# Altium footprint library Connector_Samtec_HSEC8.PcbLib: 133 footprints (part 7 of 9)
Each footprint in its own frame and in the unit in brackets; x right, y up, seen from the top. Pads: shape width x height; smd on the part's side, far side on the other; paste and mask are expansions set on the pad; w line width, h text height; cw(c..) or ccw(c..) is an arc to the next point about the centre after c.
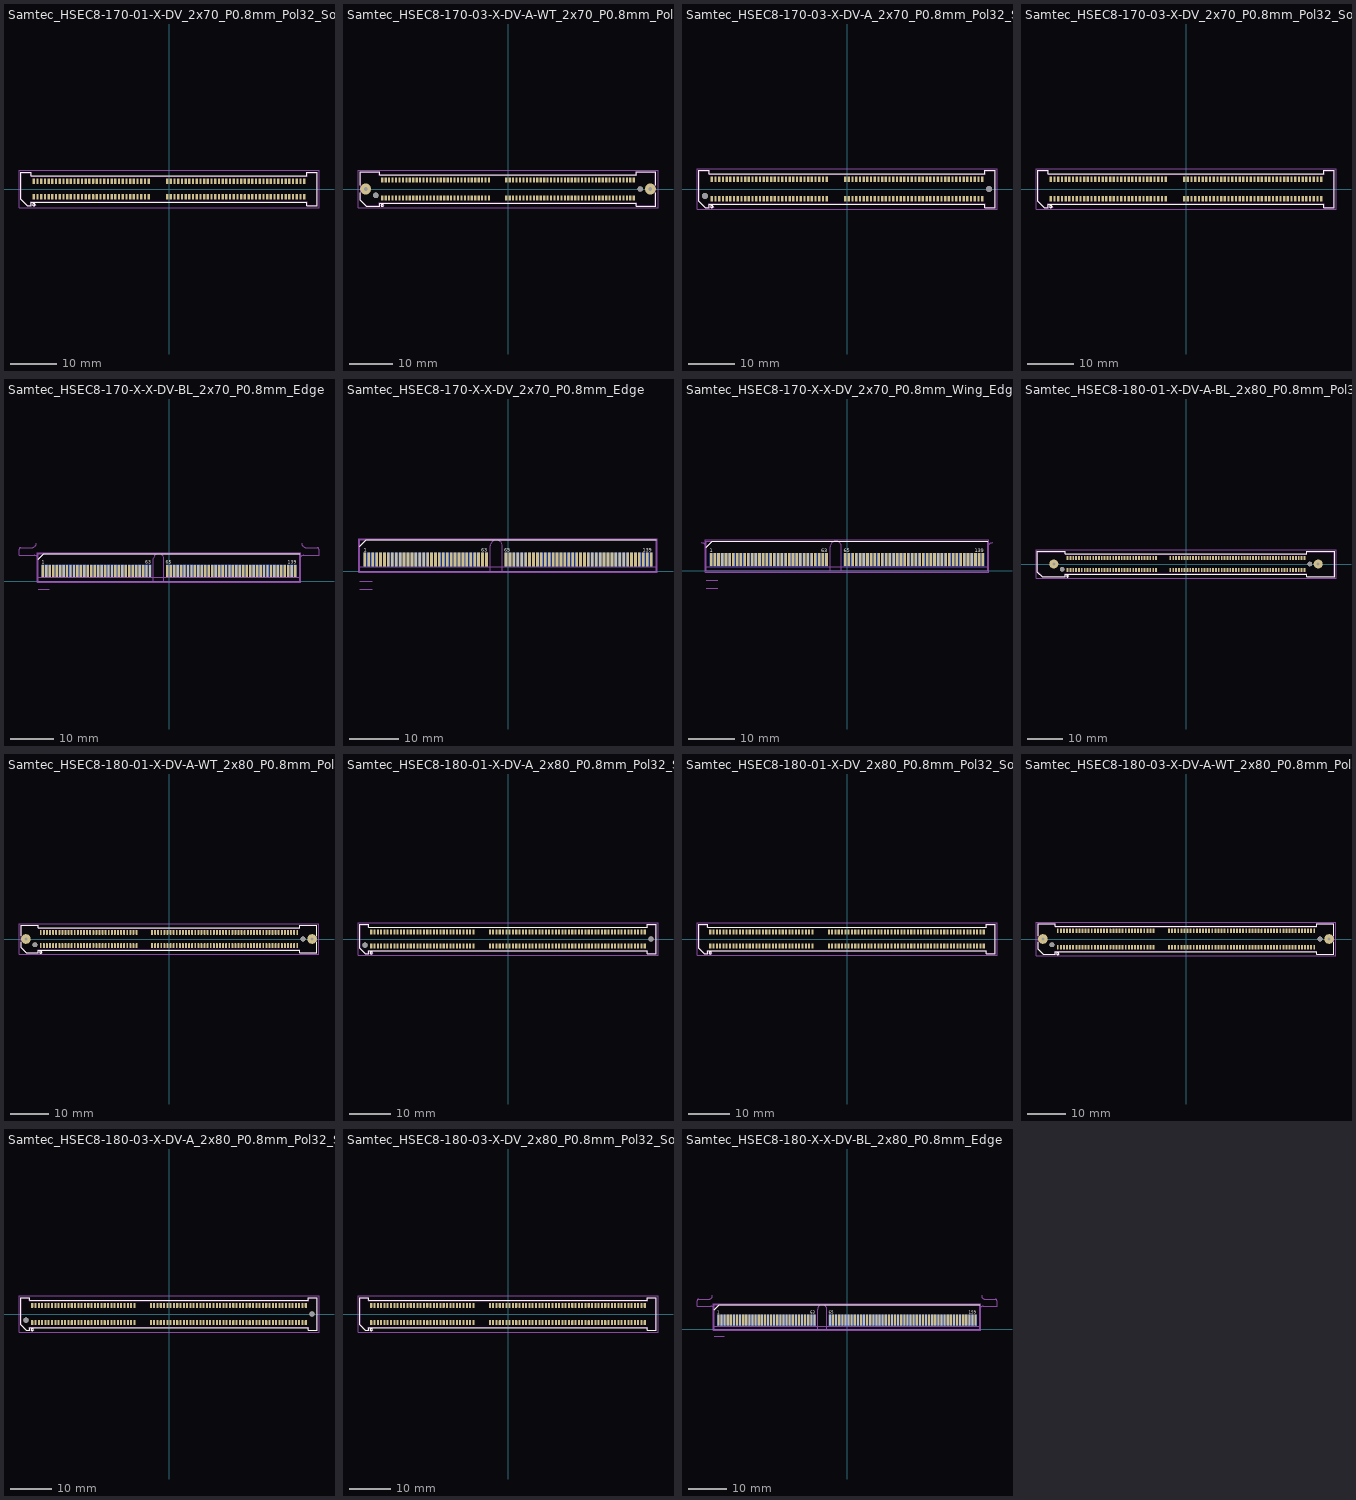
[diagram p6: the footprints below, top view; thin cyan lines are the x and y axes]

## Samtec_HSEC8-170-01-X-DV_2x70_P0.8mm_Pol32_Socket [mm]
pads (140):
  rrect25% 0.5x1.2 smd: 1(-29.2,-1.7) 2(-29.2,1.7) 3(-28.4,-1.7) 4(-28.4,1.7) 5(-27.6,-1.7) 6(-27.6,1.7) 7(-26.8,-1.7) 8(-26.8,1.7) 9(-26,-1.7) 10(-26,1.7) 11(-25.2,-1.7) 12(-25.2,1.7) 13(-24.4,-1.7) 14(-24.4,1.7) 15(-23.6,-1.7) 16(-23.6,1.7) 17(-22.8,-1.7) 18(-22.8,1.7) 19(-22,-1.7) 20(-22,1.7) 21(-21.2,-1.7) 22(-21.2,1.7) 23(-20.4,-1.7) 24(-20.4,1.7) 25(-19.6,-1.7) 26(-19.6,1.7) 27(-18.8,-1.7) 28(-18.8,1.7) 29(-18,-1.7) 30(-18,1.7) 31(-17.2,-1.7) 32(-17.2,1.7) 33(-16.4,-1.7) 34(-16.4,1.7) 35(-15.6,-1.7) 36(-15.6,1.7) 37(-14.8,-1.7) 38(-14.8,1.7) 39(-14,-1.7) 40(-14,1.7) 41(-13.2,-1.7) 42(-13.2,1.7) 43(-12.4,-1.7) 44(-12.4,1.7) 45(-11.6,-1.7) 46(-11.6,1.7) 47(-10.8,-1.7) 48(-10.8,1.7) 49(-10,-1.7) 50(-10,1.7) 51(-9.2,-1.7) 52(-9.2,1.7) 53(-8.4,-1.7) 54(-8.4,1.7) 55(-7.6,-1.7) 56(-7.6,1.7) 57(-6.8,-1.7) 58(-6.8,1.7) 59(-6,-1.7) 60(-6,1.7) 61(-5.2,-1.7) 62(-5.2,1.7) 63(-4.4,-1.7) 64(-4.4,1.7) 65(-0.4,-1.7) 66(-0.4,1.7) 67(0.4,-1.7) 68(0.4,1.7) 69(1.2,-1.7) 70(1.2,1.7) 71(2,-1.7) 72(2,1.7) 73(2.8,-1.7) 74(2.8,1.7) 75(3.6,-1.7) 76(3.6,1.7) 77(4.4,-1.7) 78(4.4,1.7) 79(5.2,-1.7) 80(5.2,1.7) 81(6,-1.7) 82(6,1.7) 83(6.8,-1.7) 84(6.8,1.7) 85(7.6,-1.7) 86(7.6,1.7) 87(8.4,-1.7) 88(8.4,1.7) 89(9.2,-1.7) 90(9.2,1.7) 91(10,-1.7) 92(10,1.7) 93(10.8,-1.7) 94(10.8,1.7) 95(11.6,-1.7) 96(11.6,1.7) 97(12.4,-1.7) 98(12.4,1.7) 99(13.2,-1.7) 100(13.2,1.7) 101(14,-1.7) 102(14,1.7) 103(14.8,-1.7) 104(14.8,1.7) 105(15.6,-1.7) 106(15.6,1.7) 107(16.4,-1.7) 108(16.4,1.7) 109(17.2,-1.7) 110(17.2,1.7) 111(18,-1.7) 112(18,1.7) 113(18.8,-1.7) 114(18.8,1.7) 115(19.6,-1.7) 116(19.6,1.7) 117(20.4,-1.7) 118(20.4,1.7) 119(21.2,-1.7) 120(21.2,1.7) 121(22,-1.7) 122(22,1.7) 123(22.8,-1.7) 124(22.8,1.7) 125(23.6,-1.7) 126(23.6,1.7) 127(24.4,-1.7) 128(24.4,1.7) 129(25.2,-1.7) 130(25.2,1.7) 131(26,-1.7) 132(26,1.7) 133(26.8,-1.7) 134(26.8,1.7) 135(27.6,-1.7) 136(27.6,1.7) 137(28.4,-1.7) 138(28.4,1.7) 139(29.2,-1.7) 140(29.2,1.7)
F.SilkS:
  circle w0.254: c-29.2,-3.4 r0.25
  lines w0.254: -32.01,-2.246 -30.646,-3.61 -29.79,-3.61 -29.79,-2.91 29.79,-2.91 29.79,-3.61 32.01,-3.61 32.01,3.61 29.79,3.61 29.79,2.91 -29.79,2.91 -29.79,3.61 -32.01,3.61 -32.01,-2.246
Top Assembly:
  lines w0.254: -31.9,-2.2 -30.6,-3.5 -29.9,-3.5 -29.9,-2.8 29.9,-2.8 29.9,-3.5 31.9,-3.5 31.9,3.5 29.9,3.5 29.9,2.8 -29.9,2.8 -29.9,3.5 -31.9,3.5 -31.9,-2.2 ; -29.6,-3.5 -28.8,-3.5 -29.2,-2.86 -29.6,-3.5
  text "'.Designator'" at -4.047,-0.84 h1
Top Courtyard:
  lines w0.254: -32.41,-4 32.41,-4 32.41,4 -32.41,4 -32.41,-4
Top Designator:
  text ".Designator" at -7.618,-0.508 h1.52

## Samtec_HSEC8-170-03-X-DV-A-WT_2x70_P0.8mm_Pol32_Socket_WeldTabs [mm]
pads (144):
  rrect25% 0.5x1.2 smd: 1(-29.2,-2.095) 2(-29.2,2.095) 3(-28.4,-2.095) 4(-28.4,2.095) 5(-27.6,-2.095) 6(-27.6,2.095) 7(-26.8,-2.095) 8(-26.8,2.095) 9(-26,-2.095) 10(-26,2.095) 11(-25.2,-2.095) 12(-25.2,2.095) 13(-24.4,-2.095) 14(-24.4,2.095) 15(-23.6,-2.095) 16(-23.6,2.095) 17(-22.8,-2.095) 18(-22.8,2.095) 19(-22,-2.095) 20(-22,2.095) 21(-21.2,-2.095) 22(-21.2,2.095) 23(-20.4,-2.095) 24(-20.4,2.095) 25(-19.6,-2.095) 26(-19.6,2.095) 27(-18.8,-2.095) 28(-18.8,2.095) 29(-18,-2.095) 30(-18,2.095) 31(-17.2,-2.095) 32(-17.2,2.095) 33(-16.4,-2.095) 34(-16.4,2.095) 35(-15.6,-2.095) 36(-15.6,2.095) 37(-14.8,-2.095) 38(-14.8,2.095) 39(-14,-2.095) 40(-14,2.095) 41(-13.2,-2.095) 42(-13.2,2.095) 43(-12.4,-2.095) 44(-12.4,2.095) 45(-11.6,-2.095) 46(-11.6,2.095) 47(-10.8,-2.095) 48(-10.8,2.095) 49(-10,-2.095) 50(-10,2.095) 51(-9.2,-2.095) 52(-9.2,2.095) 53(-8.4,-2.095) 54(-8.4,2.095) 55(-7.6,-2.095) 56(-7.6,2.095) 57(-6.8,-2.095) 58(-6.8,2.095) 59(-6,-2.095) 60(-6,2.095) 61(-5.2,-2.095) 62(-5.2,2.095) 63(-4.4,-2.095) 64(-4.4,2.095) 65(-0.4,-2.095) 66(-0.4,2.095) 67(0.4,-2.095) 68(0.4,2.095) 69(1.2,-2.095) 70(1.2,2.095) 71(2,-2.095) 72(2,2.095) 73(2.8,-2.095) 74(2.8,2.095) 75(3.6,-2.095) 76(3.6,2.095) 77(4.4,-2.095) 78(4.4,2.095) 79(5.2,-2.095) 80(5.2,2.095) 81(6,-2.095) 82(6,2.095) 83(6.8,-2.095) 84(6.8,2.095) 85(7.6,-2.095) 86(7.6,2.095) 87(8.4,-2.095) 88(8.4,2.095) 89(9.2,-2.095) 90(9.2,2.095) 91(10,-2.095) 92(10,2.095) 93(10.8,-2.095) 94(10.8,2.095) 95(11.6,-2.095) 96(11.6,2.095) 97(12.4,-2.095) 98(12.4,2.095) 99(13.2,-2.095) 100(13.2,2.095) 101(14,-2.095) 102(14,2.095) 103(14.8,-2.095) 104(14.8,2.095) 105(15.6,-2.095) 106(15.6,2.095) 107(16.4,-2.095) 108(16.4,2.095) 109(17.2,-2.095) 110(17.2,2.095) 111(18,-2.095) 112(18,2.095) 113(18.8,-2.095) 114(18.8,2.095) 115(19.6,-2.095) 116(19.6,2.095) 117(20.4,-2.095) 118(20.4,2.095) 119(21.2,-2.095) 120(21.2,2.095) 121(22,-2.095) 122(22,2.095) 123(22.8,-2.095) 124(22.8,2.095) 125(23.6,-2.095) 126(23.6,2.095) 127(24.4,-2.095) 128(24.4,2.095) 129(25.2,-2.095) 130(25.2,2.095) 131(26,-2.095) 132(26,2.095) 133(26.8,-2.095) 134(26.8,2.095) 135(27.6,-2.095) 136(27.6,2.095) 137(28.4,-2.095) 138(28.4,2.095) 139(29.2,-2.095) 140(29.2,2.095)
  round 2.54 hole 0.84: Un1(-33.05,0) Un4(33.05,0)
  round 1.27 hole 1.27: Un2(-30.7,-1.5) Un3(30.7,0)
F.SilkS:
  circle w0.254: c-29.2,-3.795 r0.25
  lines w0.254: -34.31,-0.868 -34.31,-2.641 -32.946,-4.005 -29.79,-4.005 -29.79,-3.305 29.79,-3.305 29.79,-4.005 34.31,-4.005 34.31,-0.868 ; -34.31,0.868 -34.31,4.005 -29.79,4.005 -29.79,3.305 29.79,3.305 29.79,4.005 34.31,4.005 34.31,0.868
Top Assembly:
  lines w0.254: -34.2,-2.595 -32.9,-3.895 -29.9,-3.895 -29.9,-3.195 29.9,-3.195 29.9,-3.895 34.2,-3.895 34.2,3.895 29.9,3.895 29.9,3.195 -29.9,3.195 -29.9,3.895 -34.2,3.895 -34.2,-2.595 ; -29.6,-3.895 -28.8,-3.895 -29.2,-3.255 -29.6,-3.895
  text "'.Designator'" at -4.047,-0.84 h1
Top Courtyard:
  lines w0.254: -34.83,-4.4 34.83,-4.4 34.83,4.4 -34.83,4.4 -34.83,-4.4
Top Designator:
  text ".Designator" at -7.618,-0.508 h1.52

## Samtec_HSEC8-170-03-X-DV-A_2x70_P0.8mm_Pol32_Socket_AlignmentPins [mm]
pads (142):
  rrect25% 0.5x1.2 smd: 1(-29.2,-2.095) 2(-29.2,2.095) 3(-28.4,-2.095) 4(-28.4,2.095) 5(-27.6,-2.095) 6(-27.6,2.095) 7(-26.8,-2.095) 8(-26.8,2.095) 9(-26,-2.095) 10(-26,2.095) 11(-25.2,-2.095) 12(-25.2,2.095) 13(-24.4,-2.095) 14(-24.4,2.095) 15(-23.6,-2.095) 16(-23.6,2.095) 17(-22.8,-2.095) 18(-22.8,2.095) 19(-22,-2.095) 20(-22,2.095) 21(-21.2,-2.095) 22(-21.2,2.095) 23(-20.4,-2.095) 24(-20.4,2.095) 25(-19.6,-2.095) 26(-19.6,2.095) 27(-18.8,-2.095) 28(-18.8,2.095) 29(-18,-2.095) 30(-18,2.095) 31(-17.2,-2.095) 32(-17.2,2.095) 33(-16.4,-2.095) 34(-16.4,2.095) 35(-15.6,-2.095) 36(-15.6,2.095) 37(-14.8,-2.095) 38(-14.8,2.095) 39(-14,-2.095) 40(-14,2.095) 41(-13.2,-2.095) 42(-13.2,2.095) 43(-12.4,-2.095) 44(-12.4,2.095) 45(-11.6,-2.095) 46(-11.6,2.095) 47(-10.8,-2.095) 48(-10.8,2.095) 49(-10,-2.095) 50(-10,2.095) 51(-9.2,-2.095) 52(-9.2,2.095) 53(-8.4,-2.095) 54(-8.4,2.095) 55(-7.6,-2.095) 56(-7.6,2.095) 57(-6.8,-2.095) 58(-6.8,2.095) 59(-6,-2.095) 60(-6,2.095) 61(-5.2,-2.095) 62(-5.2,2.095) 63(-4.4,-2.095) 64(-4.4,2.095) 65(-0.4,-2.095) 66(-0.4,2.095) 67(0.4,-2.095) 68(0.4,2.095) 69(1.2,-2.095) 70(1.2,2.095) 71(2,-2.095) 72(2,2.095) 73(2.8,-2.095) 74(2.8,2.095) 75(3.6,-2.095) 76(3.6,2.095) 77(4.4,-2.095) 78(4.4,2.095) 79(5.2,-2.095) 80(5.2,2.095) 81(6,-2.095) 82(6,2.095) 83(6.8,-2.095) 84(6.8,2.095) 85(7.6,-2.095) 86(7.6,2.095) 87(8.4,-2.095) 88(8.4,2.095) 89(9.2,-2.095) 90(9.2,2.095) 91(10,-2.095) 92(10,2.095) 93(10.8,-2.095) 94(10.8,2.095) 95(11.6,-2.095) 96(11.6,2.095) 97(12.4,-2.095) 98(12.4,2.095) 99(13.2,-2.095) 100(13.2,2.095) 101(14,-2.095) 102(14,2.095) 103(14.8,-2.095) 104(14.8,2.095) 105(15.6,-2.095) 106(15.6,2.095) 107(16.4,-2.095) 108(16.4,2.095) 109(17.2,-2.095) 110(17.2,2.095) 111(18,-2.095) 112(18,2.095) 113(18.8,-2.095) 114(18.8,2.095) 115(19.6,-2.095) 116(19.6,2.095) 117(20.4,-2.095) 118(20.4,2.095) 119(21.2,-2.095) 120(21.2,2.095) 121(22,-2.095) 122(22,2.095) 123(22.8,-2.095) 124(22.8,2.095) 125(23.6,-2.095) 126(23.6,2.095) 127(24.4,-2.095) 128(24.4,2.095) 129(25.2,-2.095) 130(25.2,2.095) 131(26,-2.095) 132(26,2.095) 133(26.8,-2.095) 134(26.8,2.095) 135(27.6,-2.095) 136(27.6,2.095) 137(28.4,-2.095) 138(28.4,2.095) 139(29.2,-2.095) 140(29.2,2.095)
  round 1.27 hole 1.27: Un1(-30.7,-1.5) Un2(30.7,0)
F.SilkS:
  circle w0.254: c-29.2,-3.795 r0.25
  lines w0.254: -32.01,-2.641 -30.646,-4.005 -29.79,-4.005 -29.79,-3.305 29.79,-3.305 29.79,-4.005 32.01,-4.005 32.01,4.005 29.79,4.005 29.79,3.305 -29.79,3.305 -29.79,4.005 -32.01,4.005 -32.01,-2.641
Top Assembly:
  lines w0.254: -31.9,-2.595 -30.6,-3.895 -29.9,-3.895 -29.9,-3.195 29.9,-3.195 29.9,-3.895 31.9,-3.895 31.9,3.895 29.9,3.895 29.9,3.195 -29.9,3.195 -29.9,3.895 -31.9,3.895 -31.9,-2.595 ; -29.6,-3.895 -28.8,-3.895 -29.2,-3.255 -29.6,-3.895
  text "'.Designator'" at -4.047,-0.84 h1
Top Courtyard:
  lines w0.254: -32.41,-4.4 32.41,-4.4 32.41,4.4 -32.41,4.4 -32.41,-4.4
Top Designator:
  text ".Designator" at -7.618,-0.508 h1.52

## Samtec_HSEC8-170-03-X-DV_2x70_P0.8mm_Pol32_Socket [mm]
pads (140):
  rrect25% 0.5x1.2 smd: 1(-29.2,-2.095) 2(-29.2,2.095) 3(-28.4,-2.095) 4(-28.4,2.095) 5(-27.6,-2.095) 6(-27.6,2.095) 7(-26.8,-2.095) 8(-26.8,2.095) 9(-26,-2.095) 10(-26,2.095) 11(-25.2,-2.095) 12(-25.2,2.095) 13(-24.4,-2.095) 14(-24.4,2.095) 15(-23.6,-2.095) 16(-23.6,2.095) 17(-22.8,-2.095) 18(-22.8,2.095) 19(-22,-2.095) 20(-22,2.095) 21(-21.2,-2.095) 22(-21.2,2.095) 23(-20.4,-2.095) 24(-20.4,2.095) 25(-19.6,-2.095) 26(-19.6,2.095) 27(-18.8,-2.095) 28(-18.8,2.095) 29(-18,-2.095) 30(-18,2.095) 31(-17.2,-2.095) 32(-17.2,2.095) 33(-16.4,-2.095) 34(-16.4,2.095) 35(-15.6,-2.095) 36(-15.6,2.095) 37(-14.8,-2.095) 38(-14.8,2.095) 39(-14,-2.095) 40(-14,2.095) 41(-13.2,-2.095) 42(-13.2,2.095) 43(-12.4,-2.095) 44(-12.4,2.095) 45(-11.6,-2.095) 46(-11.6,2.095) 47(-10.8,-2.095) 48(-10.8,2.095) 49(-10,-2.095) 50(-10,2.095) 51(-9.2,-2.095) 52(-9.2,2.095) 53(-8.4,-2.095) 54(-8.4,2.095) 55(-7.6,-2.095) 56(-7.6,2.095) 57(-6.8,-2.095) 58(-6.8,2.095) 59(-6,-2.095) 60(-6,2.095) 61(-5.2,-2.095) 62(-5.2,2.095) 63(-4.4,-2.095) 64(-4.4,2.095) 65(-0.4,-2.095) 66(-0.4,2.095) 67(0.4,-2.095) 68(0.4,2.095) 69(1.2,-2.095) 70(1.2,2.095) 71(2,-2.095) 72(2,2.095) 73(2.8,-2.095) 74(2.8,2.095) 75(3.6,-2.095) 76(3.6,2.095) 77(4.4,-2.095) 78(4.4,2.095) 79(5.2,-2.095) 80(5.2,2.095) 81(6,-2.095) 82(6,2.095) 83(6.8,-2.095) 84(6.8,2.095) 85(7.6,-2.095) 86(7.6,2.095) 87(8.4,-2.095) 88(8.4,2.095) 89(9.2,-2.095) 90(9.2,2.095) 91(10,-2.095) 92(10,2.095) 93(10.8,-2.095) 94(10.8,2.095) 95(11.6,-2.095) 96(11.6,2.095) 97(12.4,-2.095) 98(12.4,2.095) 99(13.2,-2.095) 100(13.2,2.095) 101(14,-2.095) 102(14,2.095) 103(14.8,-2.095) 104(14.8,2.095) 105(15.6,-2.095) 106(15.6,2.095) 107(16.4,-2.095) 108(16.4,2.095) 109(17.2,-2.095) 110(17.2,2.095) 111(18,-2.095) 112(18,2.095) 113(18.8,-2.095) 114(18.8,2.095) 115(19.6,-2.095) 116(19.6,2.095) 117(20.4,-2.095) 118(20.4,2.095) 119(21.2,-2.095) 120(21.2,2.095) 121(22,-2.095) 122(22,2.095) 123(22.8,-2.095) 124(22.8,2.095) 125(23.6,-2.095) 126(23.6,2.095) 127(24.4,-2.095) 128(24.4,2.095) 129(25.2,-2.095) 130(25.2,2.095) 131(26,-2.095) 132(26,2.095) 133(26.8,-2.095) 134(26.8,2.095) 135(27.6,-2.095) 136(27.6,2.095) 137(28.4,-2.095) 138(28.4,2.095) 139(29.2,-2.095) 140(29.2,2.095)
F.SilkS:
  circle w0.254: c-29.2,-3.795 r0.25
  lines w0.254: -32.01,-2.641 -30.646,-4.005 -29.79,-4.005 -29.79,-3.305 29.79,-3.305 29.79,-4.005 32.01,-4.005 32.01,4.005 29.79,4.005 29.79,3.305 -29.79,3.305 -29.79,4.005 -32.01,4.005 -32.01,-2.641
Top Assembly:
  lines w0.254: -31.9,-2.595 -30.6,-3.895 -29.9,-3.895 -29.9,-3.195 29.9,-3.195 29.9,-3.895 31.9,-3.895 31.9,3.895 29.9,3.895 29.9,3.195 -29.9,3.195 -29.9,3.895 -31.9,3.895 -31.9,-2.595 ; -29.6,-3.895 -28.8,-3.895 -29.2,-3.255 -29.6,-3.895
  text "'.Designator'" at -4.047,-0.84 h1
Top Courtyard:
  lines w0.254: -32.41,-4.4 32.41,-4.4 32.41,4.4 -32.41,4.4 -32.41,-4.4
Top Designator:
  text ".Designator" at -7.618,-0.508 h1.52

## Samtec_HSEC8-170-X-X-DV-BL_2x70_P0.8mm_Edge [mm]
pads (140):
  rect 0.55x2.8 smd: 1(-29.2,2.4) 3(-28.4,2.4) 5(-27.6,2.4) 7(-26.8,2.4) 9(-26,2.4) 11(-25.2,2.4) 13(-24.4,2.4) 15(-23.6,2.4) 17(-22.8,2.4) 19(-22,2.4) 21(-21.2,2.4) 23(-20.4,2.4) 25(-19.6,2.4) 27(-18.8,2.4) 29(-18,2.4) 31(-17.2,2.4) 33(-16.4,2.4) 35(-15.6,2.4) 37(-14.8,2.4) 39(-14,2.4) 41(-13.2,2.4) 43(-12.4,2.4) 45(-11.6,2.4) 47(-10.8,2.4) 49(-10,2.4) 51(-9.2,2.4) 53(-8.4,2.4) 55(-7.6,2.4) 57(-6.8,2.4) 59(-6,2.4) 61(-5.2,2.4) 63(-4.4,2.4) 65(-0.4,2.4) 67(0.4,2.4) 69(1.2,2.4) 71(2,2.4) 73(2.8,2.4) 75(3.6,2.4) 77(4.4,2.4) 79(5.2,2.4) 81(6,2.4) 83(6.8,2.4) 85(7.6,2.4) 87(8.4,2.4) 89(9.2,2.4) 91(10,2.4) 93(10.8,2.4) 95(11.6,2.4) 97(12.4,2.4) 99(13.2,2.4) 101(14,2.4) 103(14.8,2.4) 105(15.6,2.4) 107(16.4,2.4) 109(17.2,2.4) 111(18,2.4) 113(18.8,2.4) 115(19.6,2.4) 117(20.4,2.4) 119(21.2,2.4) 121(22,2.4) 123(22.8,2.4) 125(23.6,2.4) 127(24.4,2.4) 129(25.2,2.4) 131(26,2.4) 133(26.8,2.4) 135(27.6,2.4) 137(28.4,2.4) 139(29.2,2.4)
  rect 0.55x2.8 smd far side: 2(-29.2,2.4) 4(-28.4,2.4) 6(-27.6,2.4) 8(-26.8,2.4) 10(-26,2.4) 12(-25.2,2.4) 14(-24.4,2.4) 16(-23.6,2.4) 18(-22.8,2.4) 20(-22,2.4) 22(-21.2,2.4) 24(-20.4,2.4) 26(-19.6,2.4) 28(-18.8,2.4) 30(-18,2.4) 32(-17.2,2.4) 34(-16.4,2.4) 36(-15.6,2.4) 38(-14.8,2.4) 40(-14,2.4) 42(-13.2,2.4) 44(-12.4,2.4) 46(-11.6,2.4) 48(-10.8,2.4) 50(-10,2.4) 52(-9.2,2.4) 54(-8.4,2.4) 56(-7.6,2.4) 58(-6.8,2.4) 60(-6,2.4) 62(-5.2,2.4) 64(-4.4,2.4) 66(-0.4,2.4) 68(0.4,2.4) 70(1.2,2.4) 72(2,2.4) 74(2.8,2.4) 76(3.6,2.4) 78(4.4,2.4) 80(5.2,2.4) 82(6,2.4) 84(6.8,2.4) 86(7.6,2.4) 88(8.4,2.4) 90(9.2,2.4) 92(10,2.4) 94(10.8,2.4) 96(11.6,2.4) 98(12.4,2.4) 100(13.2,2.4) 102(14,2.4) 104(14.8,2.4) 106(15.6,2.4) 108(16.4,2.4) 110(17.2,2.4) 112(18,2.4) 114(18.8,2.4) 116(19.6,2.4) 118(20.4,2.4) 120(21.2,2.4) 122(22,2.4) 124(22.8,2.4) 126(23.6,2.4) 128(24.4,2.4) 130(25.2,2.4) 132(26,2.4) 134(26.8,2.4) 136(27.6,2.4) 138(28.4,2.4) 140(29.2,2.4)
F.SilkS:
  lines w0.254: -30.225,5.13 -28.955,6.4 30.225,6.4
  text "139" at 27.459,4.025 h0.75
  text "65" at -0.739,4.025 h0.75
  text "63" at -5.489,4.025 h0.75
  text "1" at -29.439,4.025 h0.75
B.SilkS:
  lines w0.254: -30.225,6.4 30.225,6.4
  text "140" at 29.459,4.025 h0.75
  text "66" at 0.671,4.025 h0.75
  text "64" at -4.043,4.025 h0.75
  text "2" at -28.8,4.025 h0.75
Top Assembly:
  lines w0.254: -30.225,0.88 30.225,0.88 ; -30.225,0 30.225,0 30.225,6.4 -28.955,6.4 -30.225,5.13 -30.225,0
  text "'.Designator'" at -4.047,1.7 h1
Bottom Assembly:
  lines w0.254: -30.225,0.88 30.225,0.88 ; -30.225,0 30.225,0 30.225,6.4 -30.225,6.4 -30.225,0
Top Courtyard:
  lines w0.254: -30.48,-0.25 30.48,-0.25 30.48,6.65 -30.48,6.65 -30.48,-0.25
Bottom Courtyard:
  lines w0.254: -30.48,-0.25 30.48,-0.25 30.48,6.65 -30.48,6.65 -30.48,-0.25
Top Designator:
  text ".Designator" at -7.618,2.485 h1.52
Board Shape:
  lines w0.254: -30.725,8.78 cw(c-31.725,8.78) -31.725,7.78 -34.325,7.78 ccw(c-34.325,7.38) -34.725,7.38 -34.725,6 -31.225,6 cw(c-31.225,5) -30.225,5 -30.225,0 -3.595,0 -3.595,5.2 cw(c-2.395,5.2) -1.195,5.2 -1.195,0 30.225,0 30.225,5 cw(c31.225,5) 31.225,6 34.725,6 34.725,7.38 ccw(c34.325,7.38) 34.325,7.78 31.725,7.78 cw(c31.725,8.78) 30.725,8.78
Cmts.User:
  lines w0.254: -30.225,-1.8 -27.725,-1.8
  text "mated PCB distance: 1.80 mm (ref)" at -27.63,-2.521 h0.75
  text "Chamfer 30 degree 0.45 mm" at -7.868,-0.21 h0.75

## Samtec_HSEC8-170-X-X-DV_2x70_P0.8mm_Edge [mm]
pads (140):
  rect 0.55x2.8 smd: 1(-29.2,2.4) 3(-28.4,2.4) 5(-27.6,2.4) 7(-26.8,2.4) 9(-26,2.4) 11(-25.2,2.4) 13(-24.4,2.4) 15(-23.6,2.4) 17(-22.8,2.4) 19(-22,2.4) 21(-21.2,2.4) 23(-20.4,2.4) 25(-19.6,2.4) 27(-18.8,2.4) 29(-18,2.4) 31(-17.2,2.4) 33(-16.4,2.4) 35(-15.6,2.4) 37(-14.8,2.4) 39(-14,2.4) 41(-13.2,2.4) 43(-12.4,2.4) 45(-11.6,2.4) 47(-10.8,2.4) 49(-10,2.4) 51(-9.2,2.4) 53(-8.4,2.4) 55(-7.6,2.4) 57(-6.8,2.4) 59(-6,2.4) 61(-5.2,2.4) 63(-4.4,2.4) 65(-0.4,2.4) 67(0.4,2.4) 69(1.2,2.4) 71(2,2.4) 73(2.8,2.4) 75(3.6,2.4) 77(4.4,2.4) 79(5.2,2.4) 81(6,2.4) 83(6.8,2.4) 85(7.6,2.4) 87(8.4,2.4) 89(9.2,2.4) 91(10,2.4) 93(10.8,2.4) 95(11.6,2.4) 97(12.4,2.4) 99(13.2,2.4) 101(14,2.4) 103(14.8,2.4) 105(15.6,2.4) 107(16.4,2.4) 109(17.2,2.4) 111(18,2.4) 113(18.8,2.4) 115(19.6,2.4) 117(20.4,2.4) 119(21.2,2.4) 121(22,2.4) 123(22.8,2.4) 125(23.6,2.4) 127(24.4,2.4) 129(25.2,2.4) 131(26,2.4) 133(26.8,2.4) 135(27.6,2.4) 137(28.4,2.4) 139(29.2,2.4)
  rect 0.55x2.8 smd far side: 2(-29.2,2.4) 4(-28.4,2.4) 6(-27.6,2.4) 8(-26.8,2.4) 10(-26,2.4) 12(-25.2,2.4) 14(-24.4,2.4) 16(-23.6,2.4) 18(-22.8,2.4) 20(-22,2.4) 22(-21.2,2.4) 24(-20.4,2.4) 26(-19.6,2.4) 28(-18.8,2.4) 30(-18,2.4) 32(-17.2,2.4) 34(-16.4,2.4) 36(-15.6,2.4) 38(-14.8,2.4) 40(-14,2.4) 42(-13.2,2.4) 44(-12.4,2.4) 46(-11.6,2.4) 48(-10.8,2.4) 50(-10,2.4) 52(-9.2,2.4) 54(-8.4,2.4) 56(-7.6,2.4) 58(-6.8,2.4) 60(-6,2.4) 62(-5.2,2.4) 64(-4.4,2.4) 66(-0.4,2.4) 68(0.4,2.4) 70(1.2,2.4) 72(2,2.4) 74(2.8,2.4) 76(3.6,2.4) 78(4.4,2.4) 80(5.2,2.4) 82(6,2.4) 84(6.8,2.4) 86(7.6,2.4) 88(8.4,2.4) 90(9.2,2.4) 92(10,2.4) 94(10.8,2.4) 96(11.6,2.4) 98(12.4,2.4) 100(13.2,2.4) 102(14,2.4) 104(14.8,2.4) 106(15.6,2.4) 108(16.4,2.4) 110(17.2,2.4) 112(18,2.4) 114(18.8,2.4) 116(19.6,2.4) 118(20.4,2.4) 120(21.2,2.4) 122(22,2.4) 124(22.8,2.4) 126(23.6,2.4) 128(24.4,2.4) 130(25.2,2.4) 132(26,2.4) 134(26.8,2.4) 136(27.6,2.4) 138(28.4,2.4) 140(29.2,2.4)
F.SilkS:
  lines w0.254: -30.225,5.13 -28.955,6.4 30.225,6.4
  text "139" at 27.459,4.025 h0.75
  text "65" at -0.739,4.025 h0.75
  text "63" at -5.489,4.025 h0.75
  text "1" at -29.439,4.025 h0.75
B.SilkS:
  lines w0.254: -30.225,6.4 30.225,6.4
  text "140" at 29.459,4.025 h0.75
  text "66" at 0.671,4.025 h0.75
  text "64" at -4.043,4.025 h0.75
  text "2" at -28.8,4.025 h0.75
Top Assembly:
  lines w0.254: -30.225,0.88 30.225,0.88 ; -30.225,0 30.225,0 30.225,6.4 -28.955,6.4 -30.225,5.13 -30.225,0
  text "'.Designator'" at -4.047,1.7 h1
Bottom Assembly:
  lines w0.254: -30.225,0.88 30.225,0.88 ; -30.225,0 30.225,0 30.225,6.4 -30.225,6.4 -30.225,0
Top Courtyard:
  lines w0.254: -30.48,-0.25 30.48,-0.25 30.48,6.65 -30.48,6.65 -30.48,-0.25
Bottom Courtyard:
  lines w0.254: -30.48,-0.25 30.48,-0.25 30.48,6.65 -30.48,6.65 -30.48,-0.25
Top Designator:
  text ".Designator" at -7.618,0.475 h1.52
Board Shape:
  lines w0.254: -30.225,5 -30.225,0 -3.595,0 -3.595,5.2 cw(c-2.395,5.2) -1.195,5.2 -1.195,0 30.225,0 30.225,5
Cmts.User:
  lines w0.254: -30.225,-3.69 -27.725,-3.69 ; -30.225,-2.05 -27.725,-2.05
  text "mated PCB distance: 3.69 mm (max)" at -27.63,-4.411 h0.75
  text "mated PCB distance: 2.05 mm (min)" at -27.63,-2.771 h0.75
  text "Chamfer 30 degree 0.45 mm" at -7.868,-0.21 h0.75

## Samtec_HSEC8-170-X-X-DV_2x70_P0.8mm_Wing_Edge [mm]
pads (140):
  rect 0.55x2.8 smd: 1(-29.2,2.4) 3(-28.4,2.4) 5(-27.6,2.4) 7(-26.8,2.4) 9(-26,2.4) 11(-25.2,2.4) 13(-24.4,2.4) 15(-23.6,2.4) 17(-22.8,2.4) 19(-22,2.4) 21(-21.2,2.4) 23(-20.4,2.4) 25(-19.6,2.4) 27(-18.8,2.4) 29(-18,2.4) 31(-17.2,2.4) 33(-16.4,2.4) 35(-15.6,2.4) 37(-14.8,2.4) 39(-14,2.4) 41(-13.2,2.4) 43(-12.4,2.4) 45(-11.6,2.4) 47(-10.8,2.4) 49(-10,2.4) 51(-9.2,2.4) 53(-8.4,2.4) 55(-7.6,2.4) 57(-6.8,2.4) 59(-6,2.4) 61(-5.2,2.4) 63(-4.4,2.4) 65(-0.4,2.4) 67(0.4,2.4) 69(1.2,2.4) 71(2,2.4) 73(2.8,2.4) 75(3.6,2.4) 77(4.4,2.4) 79(5.2,2.4) 81(6,2.4) 83(6.8,2.4) 85(7.6,2.4) 87(8.4,2.4) 89(9.2,2.4) 91(10,2.4) 93(10.8,2.4) 95(11.6,2.4) 97(12.4,2.4) 99(13.2,2.4) 101(14,2.4) 103(14.8,2.4) 105(15.6,2.4) 107(16.4,2.4) 109(17.2,2.4) 111(18,2.4) 113(18.8,2.4) 115(19.6,2.4) 117(20.4,2.4) 119(21.2,2.4) 121(22,2.4) 123(22.8,2.4) 125(23.6,2.4) 127(24.4,2.4) 129(25.2,2.4) 131(26,2.4) 133(26.8,2.4) 135(27.6,2.4) 137(28.4,2.4) 139(29.2,2.4)
  rect 0.55x2.8 smd far side: 2(-29.2,2.4) 4(-28.4,2.4) 6(-27.6,2.4) 8(-26.8,2.4) 10(-26,2.4) 12(-25.2,2.4) 14(-24.4,2.4) 16(-23.6,2.4) 18(-22.8,2.4) 20(-22,2.4) 22(-21.2,2.4) 24(-20.4,2.4) 26(-19.6,2.4) 28(-18.8,2.4) 30(-18,2.4) 32(-17.2,2.4) 34(-16.4,2.4) 36(-15.6,2.4) 38(-14.8,2.4) 40(-14,2.4) 42(-13.2,2.4) 44(-12.4,2.4) 46(-11.6,2.4) 48(-10.8,2.4) 50(-10,2.4) 52(-9.2,2.4) 54(-8.4,2.4) 56(-7.6,2.4) 58(-6.8,2.4) 60(-6,2.4) 62(-5.2,2.4) 64(-4.4,2.4) 66(-0.4,2.4) 68(0.4,2.4) 70(1.2,2.4) 72(2,2.4) 74(2.8,2.4) 76(3.6,2.4) 78(4.4,2.4) 80(5.2,2.4) 82(6,2.4) 84(6.8,2.4) 86(7.6,2.4) 88(8.4,2.4) 90(9.2,2.4) 92(10,2.4) 94(10.8,2.4) 96(11.6,2.4) 98(12.4,2.4) 100(13.2,2.4) 102(14,2.4) 104(14.8,2.4) 106(15.6,2.4) 108(16.4,2.4) 110(17.2,2.4) 112(18,2.4) 114(18.8,2.4) 116(19.6,2.4) 118(20.4,2.4) 120(21.2,2.4) 122(22,2.4) 124(22.8,2.4) 126(23.6,2.4) 128(24.4,2.4) 130(25.2,2.4) 132(26,2.4) 134(26.8,2.4) 136(27.6,2.4) 138(28.4,2.4) 140(29.2,2.4)
F.SilkS:
  lines w0.254: -30.225,5.13 -28.955,6.4 30.225,6.4
  text "139" at 27.459,4.025 h0.75
  text "65" at -0.739,4.025 h0.75
  text "63" at -5.489,4.025 h0.75
  text "1" at -29.439,4.025 h0.75
B.SilkS:
  lines w0.254: -30.225,6.4 30.225,6.4
  text "140" at 29.459,4.025 h0.75
  text "66" at 0.671,4.025 h0.75
  text "64" at -4.043,4.025 h0.75
  text "2" at -28.8,4.025 h0.75
Top Assembly:
  lines w0.254: -30.225,0.88 30.225,0.88 ; -30.225,0 30.225,0 30.225,6.4 -28.955,6.4 -30.225,5.13 -30.225,0
  text "'.Designator'" at -4.047,1.7 h1
Bottom Assembly:
  lines w0.254: -30.225,0.88 30.225,0.88 ; -30.225,0 30.225,0 30.225,6.4 -30.225,6.4 -30.225,0
Top Courtyard:
  lines w0.254: -30.48,-0.25 30.48,-0.25 30.48,6.65 -30.48,6.65 -30.48,-0.25
Bottom Courtyard:
  lines w0.254: -30.48,-0.25 30.48,-0.25 30.48,6.65 -30.48,6.65 -30.48,-0.25
Top Designator:
  text ".Designator" at -7.618,0.475 h1.52
Board Shape:
  lines w0.254: -31.225,6 cw(c-31.225,5) -30.225,5 -30.225,0 -3.595,0 -3.595,5.2 cw(c-2.395,5.2) -1.195,5.2 -1.195,0 30.225,0 30.225,5 cw(c31.225,5) 31.225,6
Cmts.User:
  lines w0.254: -30.225,-3.69 -27.725,-3.69 ; -30.225,-2.05 -27.725,-2.05
  text "mated PCB distance: 3.69 mm (max)" at -27.63,-4.411 h0.75
  text "mated PCB distance: 2.05 mm (min)" at -27.63,-2.771 h0.75
  text "Chamfer 30 degree 0.45 mm" at -7.868,-0.21 h0.75

## Samtec_HSEC8-180-01-X-DV-A-BL_2x80_P0.8mm_Pol32_Socket_WeldTabs_BoardLocks [mm]
pads (164):
  rrect25% 0.5x1.2 smd: 1(-33.2,-1.7) 2(-33.2,1.7) 3(-32.4,-1.7) 4(-32.4,1.7) 5(-31.6,-1.7) 6(-31.6,1.7) 7(-30.8,-1.7) 8(-30.8,1.7) 9(-30,-1.7) 10(-30,1.7) 11(-29.2,-1.7) 12(-29.2,1.7) 13(-28.4,-1.7) 14(-28.4,1.7) 15(-27.6,-1.7) 16(-27.6,1.7) 17(-26.8,-1.7) 18(-26.8,1.7) 19(-26,-1.7) 20(-26,1.7) 21(-25.2,-1.7) 22(-25.2,1.7) 23(-24.4,-1.7) 24(-24.4,1.7) 25(-23.6,-1.7) 26(-23.6,1.7) 27(-22.8,-1.7) 28(-22.8,1.7) 29(-22,-1.7) 30(-22,1.7) 31(-21.2,-1.7) 32(-21.2,1.7) 33(-20.4,-1.7) 34(-20.4,1.7) 35(-19.6,-1.7) 36(-19.6,1.7) 37(-18.8,-1.7) 38(-18.8,1.7) 39(-18,-1.7) 40(-18,1.7) 41(-17.2,-1.7) 42(-17.2,1.7) 43(-16.4,-1.7) 44(-16.4,1.7) 45(-15.6,-1.7) 46(-15.6,1.7) 47(-14.8,-1.7) 48(-14.8,1.7) 49(-14,-1.7) 50(-14,1.7) 51(-13.2,-1.7) 52(-13.2,1.7) 53(-12.4,-1.7) 54(-12.4,1.7) 55(-11.6,-1.7) 56(-11.6,1.7) 57(-10.8,-1.7) 58(-10.8,1.7) 59(-10,-1.7) 60(-10,1.7) 61(-9.2,-1.7) 62(-9.2,1.7) 63(-8.4,-1.7) 64(-8.4,1.7) 65(-4.4,-1.7) 66(-4.4,1.7) 67(-3.6,-1.7) 68(-3.6,1.7) 69(-2.8,-1.7) 70(-2.8,1.7) 71(-2,-1.7) 72(-2,1.7) 73(-1.2,-1.7) 74(-1.2,1.7) 75(-0.4,-1.7) 76(-0.4,1.7) 77(0.4,-1.7) 78(0.4,1.7) 79(1.2,-1.7) 80(1.2,1.7) 81(2,-1.7) 82(2,1.7) 83(2.8,-1.7) 84(2.8,1.7) 85(3.6,-1.7) 86(3.6,1.7) 87(4.4,-1.7) 88(4.4,1.7) 89(5.2,-1.7) 90(5.2,1.7) 91(6,-1.7) 92(6,1.7) 93(6.8,-1.7) 94(6.8,1.7) 95(7.6,-1.7) 96(7.6,1.7) 97(8.4,-1.7) 98(8.4,1.7) 99(9.2,-1.7) 100(9.2,1.7) 101(10,-1.7) 102(10,1.7) 103(10.8,-1.7) 104(10.8,1.7) 105(11.6,-1.7) 106(11.6,1.7) 107(12.4,-1.7) 108(12.4,1.7) 109(13.2,-1.7) 110(13.2,1.7) 111(14,-1.7) 112(14,1.7) 113(14.8,-1.7) 114(14.8,1.7) 115(15.6,-1.7) 116(15.6,1.7) 117(16.4,-1.7) 118(16.4,1.7) 119(17.2,-1.7) 120(17.2,1.7) 121(18,-1.7) 122(18,1.7) 123(18.8,-1.7) 124(18.8,1.7) 125(19.6,-1.7) 126(19.6,1.7) 127(20.4,-1.7) 128(20.4,1.7) 129(21.2,-1.7) 130(21.2,1.7) 131(22,-1.7) 132(22,1.7) 133(22.8,-1.7) 134(22.8,1.7) 135(23.6,-1.7) 136(23.6,1.7) 137(24.4,-1.7) 138(24.4,1.7) 139(25.2,-1.7) 140(25.2,1.7) 141(26,-1.7) 142(26,1.7) 143(26.8,-1.7) 144(26.8,1.7) 145(27.6,-1.7) 146(27.6,1.7) 147(28.4,-1.7) 148(28.4,1.7) 149(29.2,-1.7) 150(29.2,1.7) 151(30,-1.7) 152(30,1.7) 153(30.8,-1.7) 154(30.8,1.7) 155(31.6,-1.7) 156(31.6,1.7) 157(32.4,-1.7) 158(32.4,1.7) 159(33.2,-1.7) 160(33.2,1.7)
  round 2.54 hole 0.84: Un1(-37.05,0) Un4(37.05,0)
  round 1.27 hole 1.27: Un2(-34.7,-1.5) Un3(34.7,0)
F.SilkS:
  circle w0.254: c-33.2,-3.4 r0.25
  lines w0.254: -41.635,-2.246 -40.271,-3.61 -33.79,-3.61 -33.79,-2.91 33.79,-2.91 33.79,-3.61 41.635,-3.61 41.635,3.61 33.79,3.61 33.79,2.91 -33.79,2.91 -33.79,3.61 -41.635,3.61 -41.635,-2.246
Top Assembly:
  lines w0.254: -41.525,-2.2 -40.225,-3.5 -33.9,-3.5 -33.9,-2.8 33.9,-2.8 33.9,-3.5 41.525,-3.5 41.525,3.5 33.9,3.5 33.9,2.8 -33.9,2.8 -33.9,3.5 -41.525,3.5 -41.525,-2.2 ; -33.6,-3.5 -32.8,-3.5 -33.2,-2.86 -33.6,-3.5
  text "'.Designator'" at -4.047,-0.84 h1
Top Courtyard:
  lines w0.254: -42.03,-4 42.03,-4 42.03,4 -42.03,4 -42.03,-4
Top Designator:
  text ".Designator" at -7.618,-0.508 h1.52

## Samtec_HSEC8-180-01-X-DV-A-WT_2x80_P0.8mm_Pol32_Socket_WeldTabs [mm]
pads (164):
  rrect25% 0.5x1.2 smd: 1(-33.2,-1.7) 2(-33.2,1.7) 3(-32.4,-1.7) 4(-32.4,1.7) 5(-31.6,-1.7) 6(-31.6,1.7) 7(-30.8,-1.7) 8(-30.8,1.7) 9(-30,-1.7) 10(-30,1.7) 11(-29.2,-1.7) 12(-29.2,1.7) 13(-28.4,-1.7) 14(-28.4,1.7) 15(-27.6,-1.7) 16(-27.6,1.7) 17(-26.8,-1.7) 18(-26.8,1.7) 19(-26,-1.7) 20(-26,1.7) 21(-25.2,-1.7) 22(-25.2,1.7) 23(-24.4,-1.7) 24(-24.4,1.7) 25(-23.6,-1.7) 26(-23.6,1.7) 27(-22.8,-1.7) 28(-22.8,1.7) 29(-22,-1.7) 30(-22,1.7) 31(-21.2,-1.7) 32(-21.2,1.7) 33(-20.4,-1.7) 34(-20.4,1.7) 35(-19.6,-1.7) 36(-19.6,1.7) 37(-18.8,-1.7) 38(-18.8,1.7) 39(-18,-1.7) 40(-18,1.7) 41(-17.2,-1.7) 42(-17.2,1.7) 43(-16.4,-1.7) 44(-16.4,1.7) 45(-15.6,-1.7) 46(-15.6,1.7) 47(-14.8,-1.7) 48(-14.8,1.7) 49(-14,-1.7) 50(-14,1.7) 51(-13.2,-1.7) 52(-13.2,1.7) 53(-12.4,-1.7) 54(-12.4,1.7) 55(-11.6,-1.7) 56(-11.6,1.7) 57(-10.8,-1.7) 58(-10.8,1.7) 59(-10,-1.7) 60(-10,1.7) 61(-9.2,-1.7) 62(-9.2,1.7) 63(-8.4,-1.7) 64(-8.4,1.7) 65(-4.4,-1.7) 66(-4.4,1.7) 67(-3.6,-1.7) 68(-3.6,1.7) 69(-2.8,-1.7) 70(-2.8,1.7) 71(-2,-1.7) 72(-2,1.7) 73(-1.2,-1.7) 74(-1.2,1.7) 75(-0.4,-1.7) 76(-0.4,1.7) 77(0.4,-1.7) 78(0.4,1.7) 79(1.2,-1.7) 80(1.2,1.7) 81(2,-1.7) 82(2,1.7) 83(2.8,-1.7) 84(2.8,1.7) 85(3.6,-1.7) 86(3.6,1.7) 87(4.4,-1.7) 88(4.4,1.7) 89(5.2,-1.7) 90(5.2,1.7) 91(6,-1.7) 92(6,1.7) 93(6.8,-1.7) 94(6.8,1.7) 95(7.6,-1.7) 96(7.6,1.7) 97(8.4,-1.7) 98(8.4,1.7) 99(9.2,-1.7) 100(9.2,1.7) 101(10,-1.7) 102(10,1.7) 103(10.8,-1.7) 104(10.8,1.7) 105(11.6,-1.7) 106(11.6,1.7) 107(12.4,-1.7) 108(12.4,1.7) 109(13.2,-1.7) 110(13.2,1.7) 111(14,-1.7) 112(14,1.7) 113(14.8,-1.7) 114(14.8,1.7) 115(15.6,-1.7) 116(15.6,1.7) 117(16.4,-1.7) 118(16.4,1.7) 119(17.2,-1.7) 120(17.2,1.7) 121(18,-1.7) 122(18,1.7) 123(18.8,-1.7) 124(18.8,1.7) 125(19.6,-1.7) 126(19.6,1.7) 127(20.4,-1.7) 128(20.4,1.7) 129(21.2,-1.7) 130(21.2,1.7) 131(22,-1.7) 132(22,1.7) 133(22.8,-1.7) 134(22.8,1.7) 135(23.6,-1.7) 136(23.6,1.7) 137(24.4,-1.7) 138(24.4,1.7) 139(25.2,-1.7) 140(25.2,1.7) 141(26,-1.7) 142(26,1.7) 143(26.8,-1.7) 144(26.8,1.7) 145(27.6,-1.7) 146(27.6,1.7) 147(28.4,-1.7) 148(28.4,1.7) 149(29.2,-1.7) 150(29.2,1.7) 151(30,-1.7) 152(30,1.7) 153(30.8,-1.7) 154(30.8,1.7) 155(31.6,-1.7) 156(31.6,1.7) 157(32.4,-1.7) 158(32.4,1.7) 159(33.2,-1.7) 160(33.2,1.7)
  round 2.54 hole 0.84: Un1(-37.05,0) Un4(37.05,0)
  round 1.27 hole 1.27: Un2(-34.7,-1.5) Un3(34.7,0)
F.SilkS:
  circle w0.254: c-33.2,-3.4 r0.25
  lines w0.254: -38.31,-0.868 -38.31,-2.246 -36.946,-3.61 -33.79,-3.61 -33.79,-2.91 33.79,-2.91 33.79,-3.61 38.31,-3.61 38.31,-0.868 ; -38.31,0.868 -38.31,3.61 -33.79,3.61 -33.79,2.91 33.79,2.91 33.79,3.61 38.31,3.61 38.31,0.868
Top Assembly:
  lines w0.254: -38.2,-2.2 -36.9,-3.5 -33.9,-3.5 -33.9,-2.8 33.9,-2.8 33.9,-3.5 38.2,-3.5 38.2,3.5 33.9,3.5 33.9,2.8 -33.9,2.8 -33.9,3.5 -38.2,3.5 -38.2,-2.2 ; -33.6,-3.5 -32.8,-3.5 -33.2,-2.86 -33.6,-3.5
  text "'.Designator'" at -4.047,-0.84 h1
Top Courtyard:
  lines w0.254: -38.83,-4 38.83,-4 38.83,4 -38.83,4 -38.83,-4
Top Designator:
  text ".Designator" at -7.618,-0.508 h1.52

## Samtec_HSEC8-180-01-X-DV-A_2x80_P0.8mm_Pol32_Socket_AlignmentPins [mm]
pads (162):
  rrect25% 0.5x1.2 smd: 1(-33.2,-1.7) 2(-33.2,1.7) 3(-32.4,-1.7) 4(-32.4,1.7) 5(-31.6,-1.7) 6(-31.6,1.7) 7(-30.8,-1.7) 8(-30.8,1.7) 9(-30,-1.7) 10(-30,1.7) 11(-29.2,-1.7) 12(-29.2,1.7) 13(-28.4,-1.7) 14(-28.4,1.7) 15(-27.6,-1.7) 16(-27.6,1.7) 17(-26.8,-1.7) 18(-26.8,1.7) 19(-26,-1.7) 20(-26,1.7) 21(-25.2,-1.7) 22(-25.2,1.7) 23(-24.4,-1.7) 24(-24.4,1.7) 25(-23.6,-1.7) 26(-23.6,1.7) 27(-22.8,-1.7) 28(-22.8,1.7) 29(-22,-1.7) 30(-22,1.7) 31(-21.2,-1.7) 32(-21.2,1.7) 33(-20.4,-1.7) 34(-20.4,1.7) 35(-19.6,-1.7) 36(-19.6,1.7) 37(-18.8,-1.7) 38(-18.8,1.7) 39(-18,-1.7) 40(-18,1.7) 41(-17.2,-1.7) 42(-17.2,1.7) 43(-16.4,-1.7) 44(-16.4,1.7) 45(-15.6,-1.7) 46(-15.6,1.7) 47(-14.8,-1.7) 48(-14.8,1.7) 49(-14,-1.7) 50(-14,1.7) 51(-13.2,-1.7) 52(-13.2,1.7) 53(-12.4,-1.7) 54(-12.4,1.7) 55(-11.6,-1.7) 56(-11.6,1.7) 57(-10.8,-1.7) 58(-10.8,1.7) 59(-10,-1.7) 60(-10,1.7) 61(-9.2,-1.7) 62(-9.2,1.7) 63(-8.4,-1.7) 64(-8.4,1.7) 65(-4.4,-1.7) 66(-4.4,1.7) 67(-3.6,-1.7) 68(-3.6,1.7) 69(-2.8,-1.7) 70(-2.8,1.7) 71(-2,-1.7) 72(-2,1.7) 73(-1.2,-1.7) 74(-1.2,1.7) 75(-0.4,-1.7) 76(-0.4,1.7) 77(0.4,-1.7) 78(0.4,1.7) 79(1.2,-1.7) 80(1.2,1.7) 81(2,-1.7) 82(2,1.7) 83(2.8,-1.7) 84(2.8,1.7) 85(3.6,-1.7) 86(3.6,1.7) 87(4.4,-1.7) 88(4.4,1.7) 89(5.2,-1.7) 90(5.2,1.7) 91(6,-1.7) 92(6,1.7) 93(6.8,-1.7) 94(6.8,1.7) 95(7.6,-1.7) 96(7.6,1.7) 97(8.4,-1.7) 98(8.4,1.7) 99(9.2,-1.7) 100(9.2,1.7) 101(10,-1.7) 102(10,1.7) 103(10.8,-1.7) 104(10.8,1.7) 105(11.6,-1.7) 106(11.6,1.7) 107(12.4,-1.7) 108(12.4,1.7) 109(13.2,-1.7) 110(13.2,1.7) 111(14,-1.7) 112(14,1.7) 113(14.8,-1.7) 114(14.8,1.7) 115(15.6,-1.7) 116(15.6,1.7) 117(16.4,-1.7) 118(16.4,1.7) 119(17.2,-1.7) 120(17.2,1.7) 121(18,-1.7) 122(18,1.7) 123(18.8,-1.7) 124(18.8,1.7) 125(19.6,-1.7) 126(19.6,1.7) 127(20.4,-1.7) 128(20.4,1.7) 129(21.2,-1.7) 130(21.2,1.7) 131(22,-1.7) 132(22,1.7) 133(22.8,-1.7) 134(22.8,1.7) 135(23.6,-1.7) 136(23.6,1.7) 137(24.4,-1.7) 138(24.4,1.7) 139(25.2,-1.7) 140(25.2,1.7) 141(26,-1.7) 142(26,1.7) 143(26.8,-1.7) 144(26.8,1.7) 145(27.6,-1.7) 146(27.6,1.7) 147(28.4,-1.7) 148(28.4,1.7) 149(29.2,-1.7) 150(29.2,1.7) 151(30,-1.7) 152(30,1.7) 153(30.8,-1.7) 154(30.8,1.7) 155(31.6,-1.7) 156(31.6,1.7) 157(32.4,-1.7) 158(32.4,1.7) 159(33.2,-1.7) 160(33.2,1.7)
  round 1.27 hole 1.27: Un1(-34.7,-1.5) Un2(34.7,0)
F.SilkS:
  circle w0.254: c-33.2,-3.4 r0.25
  lines w0.254: -36.01,-2.246 -34.646,-3.61 -33.79,-3.61 -33.79,-2.91 33.79,-2.91 33.79,-3.61 36.01,-3.61 36.01,3.61 33.79,3.61 33.79,2.91 -33.79,2.91 -33.79,3.61 -36.01,3.61 -36.01,-2.246
Top Assembly:
  lines w0.254: -35.9,-2.2 -34.6,-3.5 -33.9,-3.5 -33.9,-2.8 33.9,-2.8 33.9,-3.5 35.9,-3.5 35.9,3.5 33.9,3.5 33.9,2.8 -33.9,2.8 -33.9,3.5 -35.9,3.5 -35.9,-2.2 ; -33.6,-3.5 -32.8,-3.5 -33.2,-2.86 -33.6,-3.5
  text "'.Designator'" at -4.047,-0.84 h1
Top Courtyard:
  lines w0.254: -36.41,-4 36.41,-4 36.41,4 -36.41,4 -36.41,-4
Top Designator:
  text ".Designator" at -7.618,-0.508 h1.52

## Samtec_HSEC8-180-01-X-DV_2x80_P0.8mm_Pol32_Socket [mm]
pads (160):
  rrect25% 0.5x1.2 smd: 1(-33.2,-1.7) 2(-33.2,1.7) 3(-32.4,-1.7) 4(-32.4,1.7) 5(-31.6,-1.7) 6(-31.6,1.7) 7(-30.8,-1.7) 8(-30.8,1.7) 9(-30,-1.7) 10(-30,1.7) 11(-29.2,-1.7) 12(-29.2,1.7) 13(-28.4,-1.7) 14(-28.4,1.7) 15(-27.6,-1.7) 16(-27.6,1.7) 17(-26.8,-1.7) 18(-26.8,1.7) 19(-26,-1.7) 20(-26,1.7) 21(-25.2,-1.7) 22(-25.2,1.7) 23(-24.4,-1.7) 24(-24.4,1.7) 25(-23.6,-1.7) 26(-23.6,1.7) 27(-22.8,-1.7) 28(-22.8,1.7) 29(-22,-1.7) 30(-22,1.7) 31(-21.2,-1.7) 32(-21.2,1.7) 33(-20.4,-1.7) 34(-20.4,1.7) 35(-19.6,-1.7) 36(-19.6,1.7) 37(-18.8,-1.7) 38(-18.8,1.7) 39(-18,-1.7) 40(-18,1.7) 41(-17.2,-1.7) 42(-17.2,1.7) 43(-16.4,-1.7) 44(-16.4,1.7) 45(-15.6,-1.7) 46(-15.6,1.7) 47(-14.8,-1.7) 48(-14.8,1.7) 49(-14,-1.7) 50(-14,1.7) 51(-13.2,-1.7) 52(-13.2,1.7) 53(-12.4,-1.7) 54(-12.4,1.7) 55(-11.6,-1.7) 56(-11.6,1.7) 57(-10.8,-1.7) 58(-10.8,1.7) 59(-10,-1.7) 60(-10,1.7) 61(-9.2,-1.7) 62(-9.2,1.7) 63(-8.4,-1.7) 64(-8.4,1.7) 65(-4.4,-1.7) 66(-4.4,1.7) 67(-3.6,-1.7) 68(-3.6,1.7) 69(-2.8,-1.7) 70(-2.8,1.7) 71(-2,-1.7) 72(-2,1.7) 73(-1.2,-1.7) 74(-1.2,1.7) 75(-0.4,-1.7) 76(-0.4,1.7) 77(0.4,-1.7) 78(0.4,1.7) 79(1.2,-1.7) 80(1.2,1.7) 81(2,-1.7) 82(2,1.7) 83(2.8,-1.7) 84(2.8,1.7) 85(3.6,-1.7) 86(3.6,1.7) 87(4.4,-1.7) 88(4.4,1.7) 89(5.2,-1.7) 90(5.2,1.7) 91(6,-1.7) 92(6,1.7) 93(6.8,-1.7) 94(6.8,1.7) 95(7.6,-1.7) 96(7.6,1.7) 97(8.4,-1.7) 98(8.4,1.7) 99(9.2,-1.7) 100(9.2,1.7) 101(10,-1.7) 102(10,1.7) 103(10.8,-1.7) 104(10.8,1.7) 105(11.6,-1.7) 106(11.6,1.7) 107(12.4,-1.7) 108(12.4,1.7) 109(13.2,-1.7) 110(13.2,1.7) 111(14,-1.7) 112(14,1.7) 113(14.8,-1.7) 114(14.8,1.7) 115(15.6,-1.7) 116(15.6,1.7) 117(16.4,-1.7) 118(16.4,1.7) 119(17.2,-1.7) 120(17.2,1.7) 121(18,-1.7) 122(18,1.7) 123(18.8,-1.7) 124(18.8,1.7) 125(19.6,-1.7) 126(19.6,1.7) 127(20.4,-1.7) 128(20.4,1.7) 129(21.2,-1.7) 130(21.2,1.7) 131(22,-1.7) 132(22,1.7) 133(22.8,-1.7) 134(22.8,1.7) 135(23.6,-1.7) 136(23.6,1.7) 137(24.4,-1.7) 138(24.4,1.7) 139(25.2,-1.7) 140(25.2,1.7) 141(26,-1.7) 142(26,1.7) 143(26.8,-1.7) 144(26.8,1.7) 145(27.6,-1.7) 146(27.6,1.7) 147(28.4,-1.7) 148(28.4,1.7) 149(29.2,-1.7) 150(29.2,1.7) 151(30,-1.7) 152(30,1.7) 153(30.8,-1.7) 154(30.8,1.7) 155(31.6,-1.7) 156(31.6,1.7) 157(32.4,-1.7) 158(32.4,1.7) 159(33.2,-1.7) 160(33.2,1.7)
F.SilkS:
  circle w0.254: c-33.2,-3.4 r0.25
  lines w0.254: -36.01,-2.246 -34.646,-3.61 -33.79,-3.61 -33.79,-2.91 33.79,-2.91 33.79,-3.61 36.01,-3.61 36.01,3.61 33.79,3.61 33.79,2.91 -33.79,2.91 -33.79,3.61 -36.01,3.61 -36.01,-2.246
Top Assembly:
  lines w0.254: -35.9,-2.2 -34.6,-3.5 -33.9,-3.5 -33.9,-2.8 33.9,-2.8 33.9,-3.5 35.9,-3.5 35.9,3.5 33.9,3.5 33.9,2.8 -33.9,2.8 -33.9,3.5 -35.9,3.5 -35.9,-2.2 ; -33.6,-3.5 -32.8,-3.5 -33.2,-2.86 -33.6,-3.5
  text "'.Designator'" at -4.047,-0.84 h1
Top Courtyard:
  lines w0.254: -36.41,-4 36.41,-4 36.41,4 -36.41,4 -36.41,-4
Top Designator:
  text ".Designator" at -7.618,-0.508 h1.52

## Samtec_HSEC8-180-03-X-DV-A-WT_2x80_P0.8mm_Pol32_Socket_WeldTabs [mm]
pads (164):
  rrect25% 0.5x1.2 smd: 1(-33.2,-2.095) 2(-33.2,2.095) 3(-32.4,-2.095) 4(-32.4,2.095) 5(-31.6,-2.095) 6(-31.6,2.095) 7(-30.8,-2.095) 8(-30.8,2.095) 9(-30,-2.095) 10(-30,2.095) 11(-29.2,-2.095) 12(-29.2,2.095) 13(-28.4,-2.095) 14(-28.4,2.095) 15(-27.6,-2.095) 16(-27.6,2.095) 17(-26.8,-2.095) 18(-26.8,2.095) 19(-26,-2.095) 20(-26,2.095) 21(-25.2,-2.095) 22(-25.2,2.095) 23(-24.4,-2.095) 24(-24.4,2.095) 25(-23.6,-2.095) 26(-23.6,2.095) 27(-22.8,-2.095) 28(-22.8,2.095) 29(-22,-2.095) 30(-22,2.095) 31(-21.2,-2.095) 32(-21.2,2.095) 33(-20.4,-2.095) 34(-20.4,2.095) 35(-19.6,-2.095) 36(-19.6,2.095) 37(-18.8,-2.095) 38(-18.8,2.095) 39(-18,-2.095) 40(-18,2.095) 41(-17.2,-2.095) 42(-17.2,2.095) 43(-16.4,-2.095) 44(-16.4,2.095) 45(-15.6,-2.095) 46(-15.6,2.095) 47(-14.8,-2.095) 48(-14.8,2.095) 49(-14,-2.095) 50(-14,2.095) 51(-13.2,-2.095) 52(-13.2,2.095) 53(-12.4,-2.095) 54(-12.4,2.095) 55(-11.6,-2.095) 56(-11.6,2.095) 57(-10.8,-2.095) 58(-10.8,2.095) 59(-10,-2.095) 60(-10,2.095) 61(-9.2,-2.095) 62(-9.2,2.095) 63(-8.4,-2.095) 64(-8.4,2.095) 65(-4.4,-2.095) 66(-4.4,2.095) 67(-3.6,-2.095) 68(-3.6,2.095) 69(-2.8,-2.095) 70(-2.8,2.095) 71(-2,-2.095) 72(-2,2.095) 73(-1.2,-2.095) 74(-1.2,2.095) 75(-0.4,-2.095) 76(-0.4,2.095) 77(0.4,-2.095) 78(0.4,2.095) 79(1.2,-2.095) 80(1.2,2.095) 81(2,-2.095) 82(2,2.095) 83(2.8,-2.095) 84(2.8,2.095) 85(3.6,-2.095) 86(3.6,2.095) 87(4.4,-2.095) 88(4.4,2.095) 89(5.2,-2.095) 90(5.2,2.095) 91(6,-2.095) 92(6,2.095) 93(6.8,-2.095) 94(6.8,2.095) 95(7.6,-2.095) 96(7.6,2.095) 97(8.4,-2.095) 98(8.4,2.095) 99(9.2,-2.095) 100(9.2,2.095) 101(10,-2.095) 102(10,2.095) 103(10.8,-2.095) 104(10.8,2.095) 105(11.6,-2.095) 106(11.6,2.095) 107(12.4,-2.095) 108(12.4,2.095) 109(13.2,-2.095) 110(13.2,2.095) 111(14,-2.095) 112(14,2.095) 113(14.8,-2.095) 114(14.8,2.095) 115(15.6,-2.095) 116(15.6,2.095) 117(16.4,-2.095) 118(16.4,2.095) 119(17.2,-2.095) 120(17.2,2.095) 121(18,-2.095) 122(18,2.095) 123(18.8,-2.095) 124(18.8,2.095) 125(19.6,-2.095) 126(19.6,2.095) 127(20.4,-2.095) 128(20.4,2.095) 129(21.2,-2.095) 130(21.2,2.095) 131(22,-2.095) 132(22,2.095) 133(22.8,-2.095) 134(22.8,2.095) 135(23.6,-2.095) 136(23.6,2.095) 137(24.4,-2.095) 138(24.4,2.095) 139(25.2,-2.095) 140(25.2,2.095) 141(26,-2.095) 142(26,2.095) 143(26.8,-2.095) 144(26.8,2.095) 145(27.6,-2.095) 146(27.6,2.095) 147(28.4,-2.095) 148(28.4,2.095) 149(29.2,-2.095) 150(29.2,2.095) 151(30,-2.095) 152(30,2.095) 153(30.8,-2.095) 154(30.8,2.095) 155(31.6,-2.095) 156(31.6,2.095) 157(32.4,-2.095) 158(32.4,2.095) 159(33.2,-2.095) 160(33.2,2.095)
  round 2.54 hole 0.84: Un1(-37.05,0) Un4(37.05,0)
  round 1.27 hole 1.27: Un2(-34.7,-1.5) Un3(34.7,0)
F.SilkS:
  circle w0.254: c-33.2,-3.795 r0.25
  lines w0.254: -38.31,-0.868 -38.31,-2.641 -36.946,-4.005 -33.79,-4.005 -33.79,-3.305 33.79,-3.305 33.79,-4.005 38.31,-4.005 38.31,-0.868 ; -38.31,0.868 -38.31,4.005 -33.79,4.005 -33.79,3.305 33.79,3.305 33.79,4.005 38.31,4.005 38.31,0.868
Top Assembly:
  lines w0.254: -38.2,-2.595 -36.9,-3.895 -33.9,-3.895 -33.9,-3.195 33.9,-3.195 33.9,-3.895 38.2,-3.895 38.2,3.895 33.9,3.895 33.9,3.195 -33.9,3.195 -33.9,3.895 -38.2,3.895 -38.2,-2.595 ; -33.6,-3.895 -32.8,-3.895 -33.2,-3.255 -33.6,-3.895
  text "'.Designator'" at -4.047,-0.84 h1
Top Courtyard:
  lines w0.254: -38.83,-4.4 38.83,-4.4 38.83,4.4 -38.83,4.4 -38.83,-4.4
Top Designator:
  text ".Designator" at -7.618,-0.508 h1.52

## Samtec_HSEC8-180-03-X-DV-A_2x80_P0.8mm_Pol32_Socket_AlignmentPins [mm]
pads (162):
  rrect25% 0.5x1.2 smd: 1(-33.2,-2.095) 2(-33.2,2.095) 3(-32.4,-2.095) 4(-32.4,2.095) 5(-31.6,-2.095) 6(-31.6,2.095) 7(-30.8,-2.095) 8(-30.8,2.095) 9(-30,-2.095) 10(-30,2.095) 11(-29.2,-2.095) 12(-29.2,2.095) 13(-28.4,-2.095) 14(-28.4,2.095) 15(-27.6,-2.095) 16(-27.6,2.095) 17(-26.8,-2.095) 18(-26.8,2.095) 19(-26,-2.095) 20(-26,2.095) 21(-25.2,-2.095) 22(-25.2,2.095) 23(-24.4,-2.095) 24(-24.4,2.095) 25(-23.6,-2.095) 26(-23.6,2.095) 27(-22.8,-2.095) 28(-22.8,2.095) 29(-22,-2.095) 30(-22,2.095) 31(-21.2,-2.095) 32(-21.2,2.095) 33(-20.4,-2.095) 34(-20.4,2.095) 35(-19.6,-2.095) 36(-19.6,2.095) 37(-18.8,-2.095) 38(-18.8,2.095) 39(-18,-2.095) 40(-18,2.095) 41(-17.2,-2.095) 42(-17.2,2.095) 43(-16.4,-2.095) 44(-16.4,2.095) 45(-15.6,-2.095) 46(-15.6,2.095) 47(-14.8,-2.095) 48(-14.8,2.095) 49(-14,-2.095) 50(-14,2.095) 51(-13.2,-2.095) 52(-13.2,2.095) 53(-12.4,-2.095) 54(-12.4,2.095) 55(-11.6,-2.095) 56(-11.6,2.095) 57(-10.8,-2.095) 58(-10.8,2.095) 59(-10,-2.095) 60(-10,2.095) 61(-9.2,-2.095) 62(-9.2,2.095) 63(-8.4,-2.095) 64(-8.4,2.095) 65(-4.4,-2.095) 66(-4.4,2.095) 67(-3.6,-2.095) 68(-3.6,2.095) 69(-2.8,-2.095) 70(-2.8,2.095) 71(-2,-2.095) 72(-2,2.095) 73(-1.2,-2.095) 74(-1.2,2.095) 75(-0.4,-2.095) 76(-0.4,2.095) 77(0.4,-2.095) 78(0.4,2.095) 79(1.2,-2.095) 80(1.2,2.095) 81(2,-2.095) 82(2,2.095) 83(2.8,-2.095) 84(2.8,2.095) 85(3.6,-2.095) 86(3.6,2.095) 87(4.4,-2.095) 88(4.4,2.095) 89(5.2,-2.095) 90(5.2,2.095) 91(6,-2.095) 92(6,2.095) 93(6.8,-2.095) 94(6.8,2.095) 95(7.6,-2.095) 96(7.6,2.095) 97(8.4,-2.095) 98(8.4,2.095) 99(9.2,-2.095) 100(9.2,2.095) 101(10,-2.095) 102(10,2.095) 103(10.8,-2.095) 104(10.8,2.095) 105(11.6,-2.095) 106(11.6,2.095) 107(12.4,-2.095) 108(12.4,2.095) 109(13.2,-2.095) 110(13.2,2.095) 111(14,-2.095) 112(14,2.095) 113(14.8,-2.095) 114(14.8,2.095) 115(15.6,-2.095) 116(15.6,2.095) 117(16.4,-2.095) 118(16.4,2.095) 119(17.2,-2.095) 120(17.2,2.095) 121(18,-2.095) 122(18,2.095) 123(18.8,-2.095) 124(18.8,2.095) 125(19.6,-2.095) 126(19.6,2.095) 127(20.4,-2.095) 128(20.4,2.095) 129(21.2,-2.095) 130(21.2,2.095) 131(22,-2.095) 132(22,2.095) 133(22.8,-2.095) 134(22.8,2.095) 135(23.6,-2.095) 136(23.6,2.095) 137(24.4,-2.095) 138(24.4,2.095) 139(25.2,-2.095) 140(25.2,2.095) 141(26,-2.095) 142(26,2.095) 143(26.8,-2.095) 144(26.8,2.095) 145(27.6,-2.095) 146(27.6,2.095) 147(28.4,-2.095) 148(28.4,2.095) 149(29.2,-2.095) 150(29.2,2.095) 151(30,-2.095) 152(30,2.095) 153(30.8,-2.095) 154(30.8,2.095) 155(31.6,-2.095) 156(31.6,2.095) 157(32.4,-2.095) 158(32.4,2.095) 159(33.2,-2.095) 160(33.2,2.095)
  round 1.27 hole 1.27: Un1(-34.7,-1.5) Un2(34.7,0)
F.SilkS:
  circle w0.254: c-33.2,-3.795 r0.25
  lines w0.254: -36.01,-2.641 -34.646,-4.005 -33.79,-4.005 -33.79,-3.305 33.79,-3.305 33.79,-4.005 36.01,-4.005 36.01,4.005 33.79,4.005 33.79,3.305 -33.79,3.305 -33.79,4.005 -36.01,4.005 -36.01,-2.641
Top Assembly:
  lines w0.254: -35.9,-2.595 -34.6,-3.895 -33.9,-3.895 -33.9,-3.195 33.9,-3.195 33.9,-3.895 35.9,-3.895 35.9,3.895 33.9,3.895 33.9,3.195 -33.9,3.195 -33.9,3.895 -35.9,3.895 -35.9,-2.595 ; -33.6,-3.895 -32.8,-3.895 -33.2,-3.255 -33.6,-3.895
  text "'.Designator'" at -4.047,-0.84 h1
Top Courtyard:
  lines w0.254: -36.41,-4.4 36.41,-4.4 36.41,4.4 -36.41,4.4 -36.41,-4.4
Top Designator:
  text ".Designator" at -7.618,-0.508 h1.52

## Samtec_HSEC8-180-03-X-DV_2x80_P0.8mm_Pol32_Socket [mm]
pads (160):
  rrect25% 0.5x1.2 smd: 1(-33.2,-2.095) 2(-33.2,2.095) 3(-32.4,-2.095) 4(-32.4,2.095) 5(-31.6,-2.095) 6(-31.6,2.095) 7(-30.8,-2.095) 8(-30.8,2.095) 9(-30,-2.095) 10(-30,2.095) 11(-29.2,-2.095) 12(-29.2,2.095) 13(-28.4,-2.095) 14(-28.4,2.095) 15(-27.6,-2.095) 16(-27.6,2.095) 17(-26.8,-2.095) 18(-26.8,2.095) 19(-26,-2.095) 20(-26,2.095) 21(-25.2,-2.095) 22(-25.2,2.095) 23(-24.4,-2.095) 24(-24.4,2.095) 25(-23.6,-2.095) 26(-23.6,2.095) 27(-22.8,-2.095) 28(-22.8,2.095) 29(-22,-2.095) 30(-22,2.095) 31(-21.2,-2.095) 32(-21.2,2.095) 33(-20.4,-2.095) 34(-20.4,2.095) 35(-19.6,-2.095) 36(-19.6,2.095) 37(-18.8,-2.095) 38(-18.8,2.095) 39(-18,-2.095) 40(-18,2.095) 41(-17.2,-2.095) 42(-17.2,2.095) 43(-16.4,-2.095) 44(-16.4,2.095) 45(-15.6,-2.095) 46(-15.6,2.095) 47(-14.8,-2.095) 48(-14.8,2.095) 49(-14,-2.095) 50(-14,2.095) 51(-13.2,-2.095) 52(-13.2,2.095) 53(-12.4,-2.095) 54(-12.4,2.095) 55(-11.6,-2.095) 56(-11.6,2.095) 57(-10.8,-2.095) 58(-10.8,2.095) 59(-10,-2.095) 60(-10,2.095) 61(-9.2,-2.095) 62(-9.2,2.095) 63(-8.4,-2.095) 64(-8.4,2.095) 65(-4.4,-2.095) 66(-4.4,2.095) 67(-3.6,-2.095) 68(-3.6,2.095) 69(-2.8,-2.095) 70(-2.8,2.095) 71(-2,-2.095) 72(-2,2.095) 73(-1.2,-2.095) 74(-1.2,2.095) 75(-0.4,-2.095) 76(-0.4,2.095) 77(0.4,-2.095) 78(0.4,2.095) 79(1.2,-2.095) 80(1.2,2.095) 81(2,-2.095) 82(2,2.095) 83(2.8,-2.095) 84(2.8,2.095) 85(3.6,-2.095) 86(3.6,2.095) 87(4.4,-2.095) 88(4.4,2.095) 89(5.2,-2.095) 90(5.2,2.095) 91(6,-2.095) 92(6,2.095) 93(6.8,-2.095) 94(6.8,2.095) 95(7.6,-2.095) 96(7.6,2.095) 97(8.4,-2.095) 98(8.4,2.095) 99(9.2,-2.095) 100(9.2,2.095) 101(10,-2.095) 102(10,2.095) 103(10.8,-2.095) 104(10.8,2.095) 105(11.6,-2.095) 106(11.6,2.095) 107(12.4,-2.095) 108(12.4,2.095) 109(13.2,-2.095) 110(13.2,2.095) 111(14,-2.095) 112(14,2.095) 113(14.8,-2.095) 114(14.8,2.095) 115(15.6,-2.095) 116(15.6,2.095) 117(16.4,-2.095) 118(16.4,2.095) 119(17.2,-2.095) 120(17.2,2.095) 121(18,-2.095) 122(18,2.095) 123(18.8,-2.095) 124(18.8,2.095) 125(19.6,-2.095) 126(19.6,2.095) 127(20.4,-2.095) 128(20.4,2.095) 129(21.2,-2.095) 130(21.2,2.095) 131(22,-2.095) 132(22,2.095) 133(22.8,-2.095) 134(22.8,2.095) 135(23.6,-2.095) 136(23.6,2.095) 137(24.4,-2.095) 138(24.4,2.095) 139(25.2,-2.095) 140(25.2,2.095) 141(26,-2.095) 142(26,2.095) 143(26.8,-2.095) 144(26.8,2.095) 145(27.6,-2.095) 146(27.6,2.095) 147(28.4,-2.095) 148(28.4,2.095) 149(29.2,-2.095) 150(29.2,2.095) 151(30,-2.095) 152(30,2.095) 153(30.8,-2.095) 154(30.8,2.095) 155(31.6,-2.095) 156(31.6,2.095) 157(32.4,-2.095) 158(32.4,2.095) 159(33.2,-2.095) 160(33.2,2.095)
F.SilkS:
  circle w0.254: c-33.2,-3.795 r0.25
  lines w0.254: -36.01,-2.641 -34.646,-4.005 -33.79,-4.005 -33.79,-3.305 33.79,-3.305 33.79,-4.005 36.01,-4.005 36.01,4.005 33.79,4.005 33.79,3.305 -33.79,3.305 -33.79,4.005 -36.01,4.005 -36.01,-2.641
Top Assembly:
  lines w0.254: -35.9,-2.595 -34.6,-3.895 -33.9,-3.895 -33.9,-3.195 33.9,-3.195 33.9,-3.895 35.9,-3.895 35.9,3.895 33.9,3.895 33.9,3.195 -33.9,3.195 -33.9,3.895 -35.9,3.895 -35.9,-2.595 ; -33.6,-3.895 -32.8,-3.895 -33.2,-3.255 -33.6,-3.895
  text "'.Designator'" at -4.047,-0.84 h1
Top Courtyard:
  lines w0.254: -36.41,-4.4 36.41,-4.4 36.41,4.4 -36.41,4.4 -36.41,-4.4
Top Designator:
  text ".Designator" at -7.618,-0.508 h1.52

## Samtec_HSEC8-180-X-X-DV-BL_2x80_P0.8mm_Edge [mm]
pads (160):
  rect 0.55x2.8 smd: 1(-33.2,2.4) 3(-32.4,2.4) 5(-31.6,2.4) 7(-30.8,2.4) 9(-30,2.4) 11(-29.2,2.4) 13(-28.4,2.4) 15(-27.6,2.4) 17(-26.8,2.4) 19(-26,2.4) 21(-25.2,2.4) 23(-24.4,2.4) 25(-23.6,2.4) 27(-22.8,2.4) 29(-22,2.4) 31(-21.2,2.4) 33(-20.4,2.4) 35(-19.6,2.4) 37(-18.8,2.4) 39(-18,2.4) 41(-17.2,2.4) 43(-16.4,2.4) 45(-15.6,2.4) 47(-14.8,2.4) 49(-14,2.4) 51(-13.2,2.4) 53(-12.4,2.4) 55(-11.6,2.4) 57(-10.8,2.4) 59(-10,2.4) 61(-9.2,2.4) 63(-8.4,2.4) 65(-4.4,2.4) 67(-3.6,2.4) 69(-2.8,2.4) 71(-2,2.4) 73(-1.2,2.4) 75(-0.4,2.4) 77(0.4,2.4) 79(1.2,2.4) 81(2,2.4) 83(2.8,2.4) 85(3.6,2.4) 87(4.4,2.4) 89(5.2,2.4) 91(6,2.4) 93(6.8,2.4) 95(7.6,2.4) 97(8.4,2.4) 99(9.2,2.4) 101(10,2.4) 103(10.8,2.4) 105(11.6,2.4) 107(12.4,2.4) 109(13.2,2.4) 111(14,2.4) 113(14.8,2.4) 115(15.6,2.4) 117(16.4,2.4) 119(17.2,2.4) 121(18,2.4) 123(18.8,2.4) 125(19.6,2.4) 127(20.4,2.4) 129(21.2,2.4) 131(22,2.4) 133(22.8,2.4) 135(23.6,2.4) 137(24.4,2.4) 139(25.2,2.4) 141(26,2.4) 143(26.8,2.4) 145(27.6,2.4) 147(28.4,2.4) 149(29.2,2.4) 151(30,2.4) 153(30.8,2.4) 155(31.6,2.4) 157(32.4,2.4) 159(33.2,2.4)
  rect 0.55x2.8 smd far side: 2(-33.2,2.4) 4(-32.4,2.4) 6(-31.6,2.4) 8(-30.8,2.4) 10(-30,2.4) 12(-29.2,2.4) 14(-28.4,2.4) 16(-27.6,2.4) 18(-26.8,2.4) 20(-26,2.4) 22(-25.2,2.4) 24(-24.4,2.4) 26(-23.6,2.4) 28(-22.8,2.4) 30(-22,2.4) 32(-21.2,2.4) 34(-20.4,2.4) 36(-19.6,2.4) 38(-18.8,2.4) 40(-18,2.4) 42(-17.2,2.4) 44(-16.4,2.4) 46(-15.6,2.4) 48(-14.8,2.4) 50(-14,2.4) 52(-13.2,2.4) 54(-12.4,2.4) 56(-11.6,2.4) 58(-10.8,2.4) 60(-10,2.4) 62(-9.2,2.4) 64(-8.4,2.4) 66(-4.4,2.4) 68(-3.6,2.4) 70(-2.8,2.4) 72(-2,2.4) 74(-1.2,2.4) 76(-0.4,2.4) 78(0.4,2.4) 80(1.2,2.4) 82(2,2.4) 84(2.8,2.4) 86(3.6,2.4) 88(4.4,2.4) 90(5.2,2.4) 92(6,2.4) 94(6.8,2.4) 96(7.6,2.4) 98(8.4,2.4) 100(9.2,2.4) 102(10,2.4) 104(10.8,2.4) 106(11.6,2.4) 108(12.4,2.4) 110(13.2,2.4) 112(14,2.4) 114(14.8,2.4) 116(15.6,2.4) 118(16.4,2.4) 120(17.2,2.4) 122(18,2.4) 124(18.8,2.4) 126(19.6,2.4) 128(20.4,2.4) 130(21.2,2.4) 132(22,2.4) 134(22.8,2.4) 136(23.6,2.4) 138(24.4,2.4) 140(25.2,2.4) 142(26,2.4) 144(26.8,2.4) 146(27.6,2.4) 148(28.4,2.4) 150(29.2,2.4) 152(30,2.4) 154(30.8,2.4) 156(31.6,2.4) 158(32.4,2.4) 160(33.2,2.4)
F.SilkS:
  lines w0.254: -34.225,5.13 -32.955,6.4 34.225,6.4
  text "159" at 31.459,4.025 h0.75
  text "65" at -4.739,4.025 h0.75
  text "63" at -9.489,4.025 h0.75
  text "1" at -33.439,4.025 h0.75
B.SilkS:
  lines w0.254: -34.225,6.4 34.225,6.4
  text "160" at 33.439,4.025 h0.75
  text "66" at -3.329,4.025 h0.75
  text "64" at -8.043,4.025 h0.75
  text "2" at -32.8,4.025 h0.75
Top Assembly:
  lines w0.254: -34.225,0.88 34.225,0.88 ; -34.225,0 34.225,0 34.225,6.4 -32.955,6.4 -34.225,5.13 -34.225,0
  text "'.Designator'" at -4.047,1.7 h1
Bottom Assembly:
  lines w0.254: -34.225,0.88 34.225,0.88 ; -34.225,0 34.225,0 34.225,6.4 -34.225,6.4 -34.225,0
Top Courtyard:
  lines w0.254: -34.48,-0.25 34.48,-0.25 34.48,6.65 -34.48,6.65 -34.48,-0.25
Bottom Courtyard:
  lines w0.254: -34.48,-0.25 34.48,-0.25 34.48,6.65 -34.48,6.65 -34.48,-0.25
Top Designator:
  text ".Designator" at -7.618,2.485 h1.52
Board Shape:
  lines w0.254: -34.725,8.78 cw(c-35.725,8.78) -35.725,7.78 -38.325,7.78 ccw(c-38.325,7.38) -38.725,7.38 -38.725,6 -35.225,6 cw(c-35.225,5) -34.225,5 -34.225,0 -7.595,0 -7.595,5.2 cw(c-6.395,5.2) -5.195,5.2 -5.195,0 34.225,0 34.225,5 cw(c35.225,5) 35.225,6 38.725,6 38.725,7.38 ccw(c38.325,7.38) 38.325,7.78 35.725,7.78 cw(c35.725,8.78) 34.725,8.78
Cmts.User:
  lines w0.254: -34.225,-1.8 -31.725,-1.8
  text "mated PCB distance: 1.80 mm (ref)" at -31.63,-2.521 h0.75
  text "Chamfer 30 degree 0.45 mm" at -7.868,-0.21 h0.75